# EAGLE library part ESP32_DEVKIT (library ESP32_DOIT_DEVKIT)
ESP32 DEVKIT BOARD
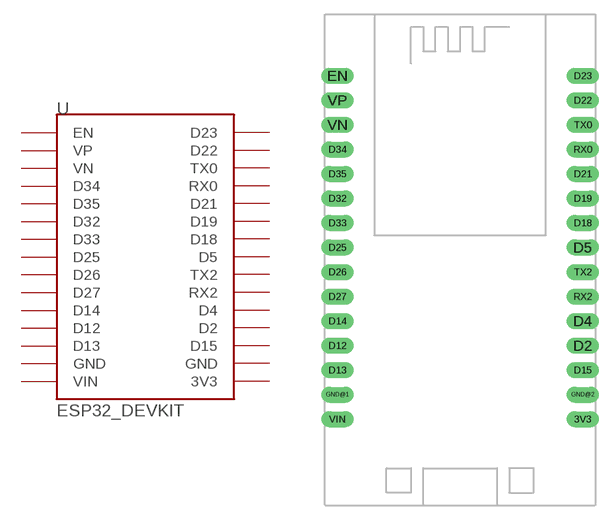
[diagram p0: symbol with the pads of ESP32_DEVKIT; footprint ESP32_DEVKIT]

Designator prefix -

## ESP32_DEVKIT  [ESP32_DEVKIT]
3V3  3V3
D2  D2
D4  D4
D5  D5
D12  D12
D13  D13
D14  D14
D15  D15
D18  D18
D19  D19
D21  D21
D22  D22
D23  D23
D25  D25
D26  D26
D27  D27
D32  D32
D33  D33
D34  D34
D35  D35
EN  EN
GND@1  GND
GND@2  GND
RX0  RX0
RX2  RX2
TX0  TX0
TX2  TX2
VIN  VIN
VN  VN
VP  VP

## Footprint ESP32_DEVKIT (pad centres in mm)
ESP32_DEVKIT
drill 0.9 pad 1.676 long: 3V3 11.43,-17.78; D2 11.43,-10.16; D4 11.43,-7.62; D5 11.43,0; D12 -13.97,-10.16; D13 -13.97,-12.7; D14 -13.97,-7.62; D15 11.43,-12.7; D18 11.43,2.54; D19 11.43,5.08; D21 11.43,7.62; D22 11.43,15.24; D23 11.43,17.78; D25 -13.97,0; D26 -13.97,-2.54; D27 -13.97,-5.08; D32 -13.97,5.08; D33 -13.97,2.54; D34 -13.97,10.16; D35 -13.97,7.62; EN -13.97,17.78; GND@1 -13.97,-15.24; GND@2 11.43,-15.24; RX0 11.43,10.16; RX2 11.43,-5.08; TX0 11.43,12.7; TX2 11.43,-2.54; VIN -13.97,-17.78; VN -13.97,12.7; VP -13.97,15.24